# Altium schematic symbol library Ebay Power Supplies.SchLib: 2 symbols
Pins are listed as number, name and electrical type; pins without a type are passive.

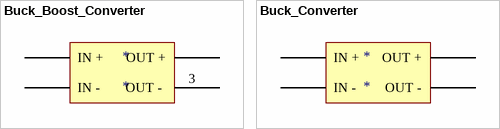
[diagram p0: symbols Buck_Boost_Converter to Buck_Converter]

## Buck_Boost_Converter
designator *
DC-DC Auto Boost Buck step Up step down Converter Module Solar Voltage LM2577
footprint Buck_Boost_Converter
pins: 0 IN +, 1 IN -, 2 OUT +, 3 OUT - 

## Buck_Converter
designator *
DC-DC LM2596 power Supply Buck Converter step-down module
footprint Buck_Converter
pins: 0 IN + (power), 1 IN - (power), 2 OUT + (power), 3 OUT - (power)